# Altium footprint library PBD-10.PcbLib: 1 footprints
Each footprint in its own frame and in the unit in brackets; x right, y up, seen from the top. Pads: shape width x height; smd on the part's side, far side on the other; paste and mask are expansions set on the pad; w line width, h text height; cw(c..) or ccw(c..) is an arc to the next point about the centre after c.
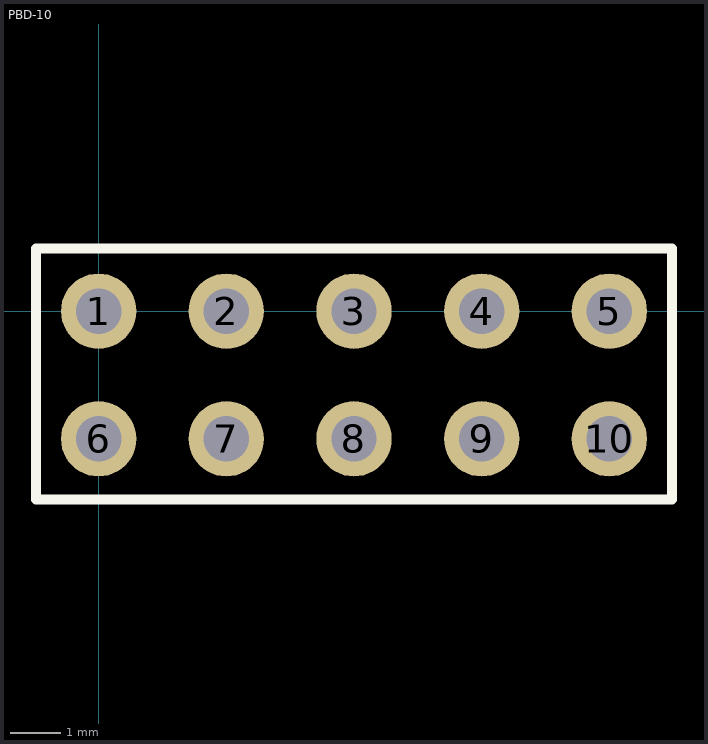
[diagram p0: the footprint, top view; thin cyan lines are the x and y axes]

## PBD-10 [mm]
pads (10):
  round 1.5 hole 0.9: 1(0,0) 2(2.54,0) 3(5.08,0) 4(7.62,0) 5(10.16,0) 6(0,-2.54) 7(2.54,-2.54) 8(5.08,-2.54) 9(7.62,-2.54) 10(10.16,-2.54)
Top Overlay:
  lines w0.2: -1.25,-3.75 11.41,-3.75 11.41,1.25 -1.25,1.25 -1.25,-3.75
3D body "User Library-PBD2_54-10.STEP": height 8.4, standoff -2.7, extent -1.25,-3.81 11.45,1.27